# EAGLE library part 61201422021 (library Wire_to_Board_Connectors_rev15d)
WR-BHD 2.54mm Male Box Header With Lever, 14 Pins=>Code : Con_WTB_BHD_2.54_Male_THT_WS_61201422021 <http://katalog.we-online.de/media/thumbs2/eican/thb_Con_WTB_BHD_2.54_Male_THT_WS_6120xx22021_pf2.jpg> Details see: http://katalog.we-online.de/en/em/612_0xx_220_21 Created 2014-06-05, Karrer Zheng 2014 (C) Würth Elektronik
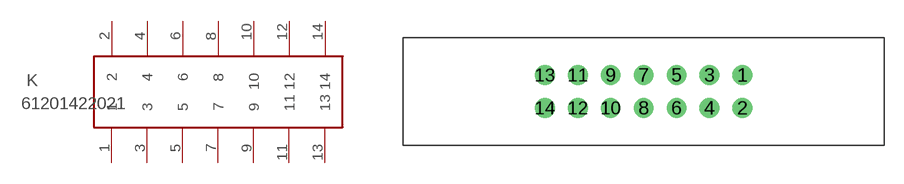
[diagram p132: symbol with the pads of 61201422021; footprint 61201422021]

Designator prefix K

## 61201422021  [61201422021]
1  1  pas
2  2  pas
3  3  pas
4  4  pas
5  5  pas
6  6  pas
7  7  pas
8  8  pas
9  9  pas
10  10  pas
11  11  pas
12  12  pas
13  13  pas
14  14  pas

## Footprint 61201422021 (pad centres in mm)
WR-BHD 2.54mm Male Box Header With Lever, 14 Pins
drill 1.02: 1 7.62,1.27; 2 7.62,-1.27; 3 5.08,1.27; 4 5.08,-1.27; 5 2.54,1.27; 6 2.54,-1.27; 7 0,1.27; 8 0,-1.27; 9 -2.54,1.27; 10 -2.54,-1.27; 11 -5.08,1.27; 12 -5.08,-1.27; 13 -7.62,1.27; 14 -7.62,-1.27